# Altium footprint library IRLML2502PBF.PcbLib: 1 footprints
Each footprint in its own frame and in the unit in brackets; x right, y up, seen from the top. Pads: shape width x height; smd on the part's side, far side on the other; paste and mask are expansions set on the pad; w line width, h text height; cw(c..) or ccw(c..) is an arc to the next point about the centre after c.
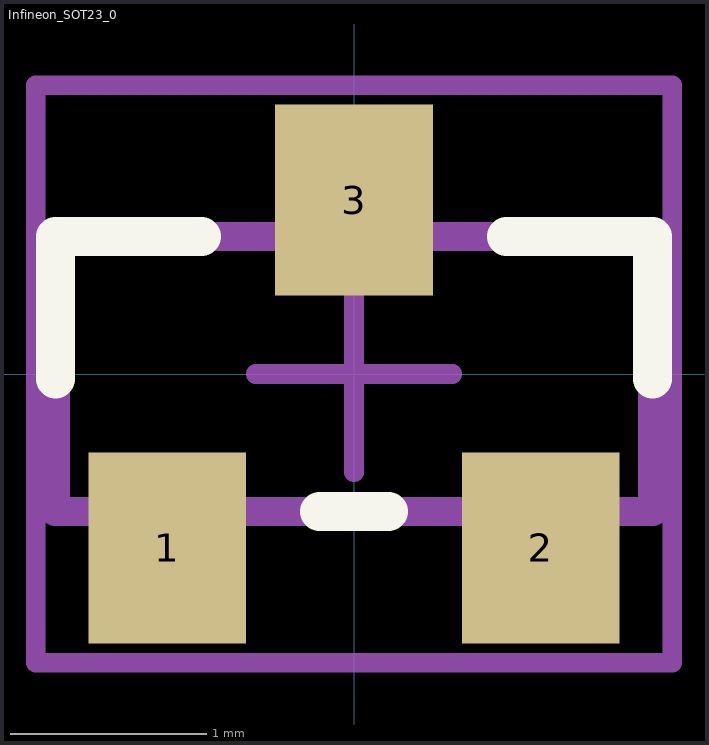
[diagram p0: the footprint, top view; thin cyan lines are the x and y axes]

## Infineon_SOT23_0 [mm]
pads (3):
  rect 0.802x0.972 smd paste+0: 1(-0.95,-0.885) 2(0.95,-0.885) 3(0,0.885)
Top Overlay:
  lines w0.2: -1.52,-0.024 -1.52,0.7 -0.776,0.7 ; -0.174,-0.7 0.174,-0.7 ; 0.776,0.7 1.52,0.7 1.52,-0.024
Mechanical 12:
  lines w0.15: -1.52,-0.7 -1.52,0.7 1.52,0.7 1.52,-0.7 -1.52,-0.7
Mechanical 13:
  lines w0.1: -1.62,-1.471 -1.62,1.471 1.62,1.471 1.62,-1.471 -1.62,-1.471
Mechanical 15:
  lines w0.1: -0.5,0 0.5,0 ; 0,-0.5 0,0.5 ; -1.62,-1.471 -1.62,1.471 1.62,1.471 1.62,-1.471 -1.62,-1.471
3D body "Trans_Infineon_IRLML2502PBF_eec.STEP": height 1.03, standoff -0.02, extent -1.45,-1.325 1.45,1.315